# EAGLE library part TPS6303X (library lib_stankus)
TI TPS6303X buck-boost converter
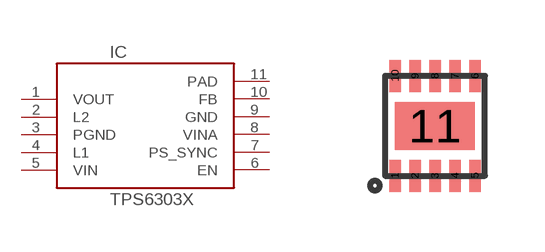
[diagram p26: symbol with the pads of SON10; footprint SON10]

Designator prefix IC

## TPS6303X-SON10  [SON10]
1  VOUT  pas
2  L2  pas
3  PGND  pas
4  L1  pas
5  VIN  pas
6  EN  pas
7  PS_SYNC  pas
8  VINA  pas
9  GND  pas
10  FB  pas
11  PAD  pas

## Footprint SON10 (pad centres in mm)
SON10
smd 0.28 x 0.8: 1 -1,-1.25; 2 -0.5,-1.25; 3 0,-1.25; 4 0.5,-1.25; 5 1,-1.25; 6 1,1.25; 7 0.5,1.25; 8 0,1.25; 9 -0.5,1.25; 10 -1,1.25
smd 2 x 1.2: 11 0,0